# Altium footprint library TDII_PCB_LIB_R00.PcbLib: 21 footprints (part 1 of 2)
Each footprint in its own frame and in the unit in brackets; x right, y up, seen from the top. Pads: shape width x height; smd on the part's side, far side on the other; paste and mask are expansions set on the pad; w line width, h text height; cw(c..) or ccw(c..) is an arc to the next point about the centre after c.
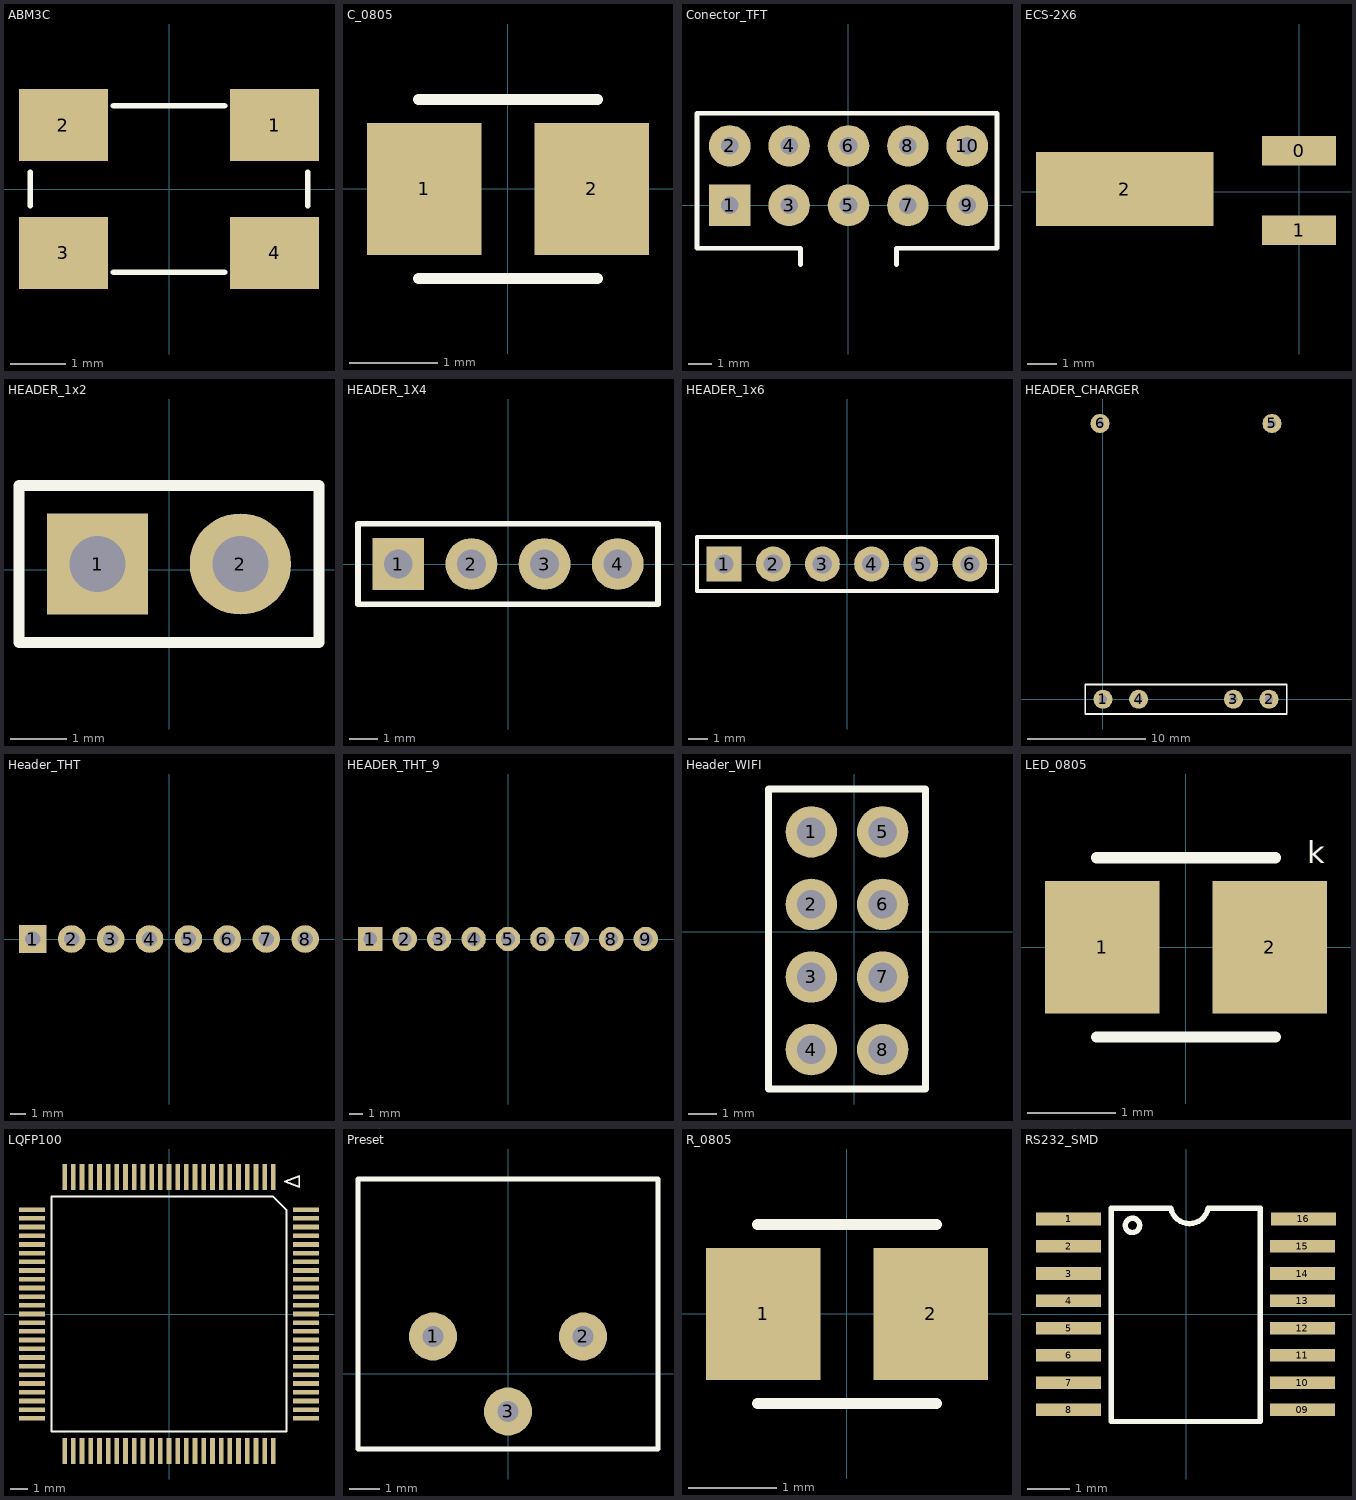
[diagram p0: the footprints below, top view; thin cyan lines are the x and y axes]

## ABM3C [mm]
pads (4):
  rect 1.6x1.3 smd: 1(1.9,1.15) 2(-1.9,1.15) 3(-1.9,-1.15) 4(1.9,-1.15)
Top Overlay:
  lines w0.102: -2.5,-0.3 -2.5,0.3 ; -1,-1.5 1,-1.5 ; -1,1.5 1,1.5 ; 2.5,-0.3 2.5,0.3

## C_0805 [mm]
pads (2):
  rect 1.3x1.5 smd: 1(-0.95,0) 2(0.95,0)
Top Overlay:
  lines w0.127: -1.016,-1.016 1.016,-1.016 ; -1.016,1.016 1.016,1.016
3D body: height 0.45, standoff 0, extent -1,-0.6 1,0.6

## Conector_TFT [mil]
pads (10):
  rect 70x70 hole 29.53: 1(-200,0)
  round 70 hole 29.53: 2(-200,100) 3(-100,0) 4(-100,100) 5(0,0) 6(0,100) 7(100,0) 8(100,100) 9(200,0) 10(200,100)
Top Overlay:
  lines w7.87: -80.71,-100 -80.71,-72 -255,-72 -255,155 250,155 250,-72 80.71,-72 80.71,-100
3D body: height 118.11, standoff -358.27, extent -398.03,-139.76 403.54,218.5

## ECS-2X6 [mm]
pads (3):
  rect 2.5x1 smd: 0(0,1.4) 1(0,-1.3)
  rect 6x2.5 smd: 2(-5.9,0.1)

## HEADER_1x2 [mm]
pads (2):
  rect 1.8x1.8 hole 1: 1(-1.27,0.1)
  round 1.8 hole 1: 2(1.27,0.1)
Top Overlay:
  lines w0.2: -2.667,-1.297 2.667,-1.297 2.667,1.497 -2.667,1.497 -2.667,-1.297
3D body: height 8.55, standoff -2.99, extent -2.54,-1.17 2.54,1.37

## HEADER_1X4 [mm]
pads (4):
  rect 1.8x1.8 hole 1: 1(-3.81,0)
  round 1.8 hole 1: 2(-1.27,0) 3(1.27,0) 4(3.81,0)
Top Overlay:
  lines w0.2: -5.207,-1.397 -5.207,1.397 5.207,1.397 5.207,-1.397 -5.207,-1.397
3D body: height 8.55, standoff -2.99, extent -5.08,-1.27 5.08,1.27

## HEADER_1x6 [mm]
pads (6):
  rect 1.8x1.8 hole 1: 1(-6.35,0)
  round 1.8 hole 1: 2(-3.81,0) 3(-1.27,0) 4(1.27,0) 5(3.81,0) 6(6.35,0)
Top Overlay:
  lines w0.2: -7.747,-1.397 7.747,-1.397 7.747,1.397 -7.747,1.397 -7.747,-1.397
3D body: height 6.31, standoff -5.12, extent -8,-36.1 7.7,1.5

## HEADER_CHARGER [mm]
pads (6):
  round 1.6 hole 0.7: 1(0,0) 2(14,0) 3(11,0) 4(3,0) 5(14.25,23.25) 6(-0.25,23.25)
Top Overlay:
  lines w0.156: -1.5,-1.25 -1.5,1.25 15.5,1.25 15.5,-1.25 -1.5,-1.25
3D body: height 5.65, standoff -0.01, extent -1.645,-1.496 15.5,24.996

## Header_THT [mm]
pads (8):
  rect 1.8x1.8 hole 1: 1(-8.89,0)
  round 1.8 hole 1: 2(-6.35,0) 3(-3.81,0) 4(-1.27,0) 5(1.27,0) 6(3.81,0) 7(6.35,0) 8(8.89,0)
3D body: height 8.5, standoff -3.2, extent -10.41,-1.04 10.41,1.5

## HEADER_THT_9 [mm]
pads (9):
  rect 1.8x1.8 hole 1: 1(-10.16,0)
  round 1.8 hole 1: 2(-7.62,0) 3(-5.08,0) 4(-2.54,0) 5(0,0) 6(2.54,0) 7(5.08,0) 8(7.62,0) 9(10.16,0)

## Header_WIFI [mm]
pads (8):
  round 1.8 hole 1: 1(-1.5,3.5) 2(-1.5,0.96) 3(-1.5,-1.58) 4(-1.5,-4.12) 5(1,3.5) 6(1,0.96) 7(1,-1.58) 8(1,-4.12)
Top Overlay:
  lines w0.254: -3,-5.5 2.5,-5.5 2.5,5 1.5,5 -3,5 -3,-5.5
3D body: height 5.8, standoff -4.5, extent -3.4,-7.5 21.6,7

## LED_0805 [mm]
pads (2):
  rect 1.3x1.5 smd: 1(-0.95,0) 2(0.95,0)
Top Overlay:
  lines w0.127: -1.016,-1.016 1.016,-1.016 ; -1.016,1.016 1.016,1.016
  text "k" at 1.375,0.95 h0.25

## LQFP100 [mm]
pads (100):
  rect 0.27x1.5 smd: 1(6,7.875) 2(5.5,7.875) 3(5,7.875) 4(4.5,7.875) 5(4,7.875) 6(3.5,7.875) 7(3,7.875) 8(2.5,7.875) 9(2,7.875) 10(1.5,7.875) 11(1,7.875) 12(0.5,7.875) 13(0,7.875) 14(-0.5,7.875) 15(-1,7.875) 16(-1.5,7.875) 17(-2,7.875) 18(-2.5,7.875) 19(-3,7.875) 20(-3.5,7.875) 21(-4,7.875) 22(-4.5,7.875) 23(-5,7.875) 24(-5.5,7.875) 25(-6,7.875) 51(-6,-7.875) 52(-5.5,-7.875) 53(-5,-7.875) 54(-4.5,-7.875) 55(-4,-7.875) 56(-3.5,-7.875) 57(-3,-7.875) 58(-2.5,-7.875) 59(-2,-7.875) 60(-1.5,-7.875) 61(-1,-7.875) 62(-0.5,-7.875) 63(0,-7.875) 64(0.5,-7.875) 65(1,-7.875) 66(1.5,-7.875) 67(2,-7.875) 68(2.5,-7.875) 69(3,-7.875) 70(3.5,-7.875) 71(4,-7.875) 72(4.5,-7.875) 73(5,-7.875) 74(5.5,-7.875) 75(6,-7.875)
  rect 1.5x0.27 smd: 26(-7.875,6) 27(-7.875,5.5) 28(-7.875,5) 29(-7.875,4.5) 30(-7.875,4) 31(-7.875,3.5) 32(-7.875,3) 33(-7.875,2.5) 34(-7.875,2) 35(-7.875,1.5) 36(-7.875,1) 37(-7.875,0.5) 38(-7.875,0) 39(-7.875,-0.5) 40(-7.875,-1) 41(-7.875,-1.5) 42(-7.875,-2) 43(-7.875,-2.5) 44(-7.875,-3) 45(-7.875,-3.5) 46(-7.875,-4) 47(-7.875,-4.5) 48(-7.875,-5) 49(-7.875,-5.5) 50(-7.875,-6) 76(7.875,-6) 77(7.875,-5.5) 78(7.875,-5) 79(7.875,-4.5) 80(7.875,-4) 81(7.875,-3.5) 82(7.875,-3) 83(7.875,-2.5) 84(7.875,-2) 85(7.875,-1.5) 86(7.875,-1) 87(7.875,-0.5) 88(7.875,0) 89(7.875,0.5) 90(7.875,1) 91(7.875,1.5) 92(7.875,2) 93(7.875,2.5) 94(7.875,3) 95(7.875,3.5) 96(7.875,4) 97(7.875,4.5) 98(7.875,5) 99(7.875,5.5) 100(7.875,6)
Top Overlay:
  lines w0.102: -6.75,-6.75 -6.75,6.75 6,6.75 6.75,6 6.75,0 6.75,-6.75 -6.75,-6.75 ; 6.667,7.62 7.493,7.302 7.493,7.938 6.667,7.62
3D body: height 1.2, standoff 0, extent -8,-8 8,8

## Preset [mm]
pads (3):
  round 1.6 hole 0.7: 1(-2.5,1.25) 2(2.5,1.25) 3(0,-1.25)
Top Overlay:
  lines w0.156: -5,-2.5 5,-2.5 5,6.5 -5,6.5 -5,-2.5
3D body: height 5, standoff -4.79, extent -4.788,-3.5 4.788,6.077

## R_0805 [mm]
pads (2):
  rect 1.3x1.5 smd: 1(-0.95,0) 2(0.95,0)
Top Overlay:
  lines w0.127: -1.016,-1.016 1.016,-1.016 ; -1.016,1.016 1.016,1.016
3D body: height 0.45, standoff 0, extent -1,-0.6 1,0.6

## RS232_SMD [mm]
pads (17):
  rect 1.55x0.3 smd: 1(-2.8,2.275) 1(-2.8,2.275) 2(-2.8,1.625) 3(-2.8,0.975) 4(-2.8,0.325) 5(-2.8,-0.325) 6(-2.8,-0.975) 7(-2.8,-1.625) 8(-2.8,-2.275) 09(2.775,-2.275) 10(2.775,-1.625) 11(2.775,-0.975) 12(2.775,-0.325) 13(2.775,0.325) 14(2.775,0.975) 15(2.775,1.625) 16(2.8,2.275)
Top Overlay:
  circle w0.127: c-1.276,2.123 r0.17
  lines w0.127: -0.365,2.529 -1.784,2.529 -1.784,-2.551 1.772,-2.551 1.772,2.529 0.527,2.529 cw(c0.083,2.618) -0.361,2.525